# EAGLE library part PUSBM12VX4-TL-115 (library custom-ds)
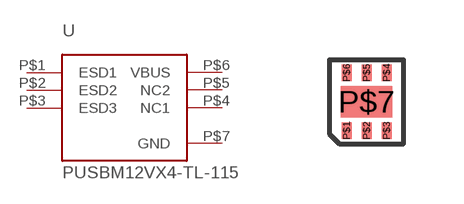
[diagram p6: symbol with the pads of PUSBM12VX4-TL-115; footprint PUSBM12VX4-TL-115]

Designator prefix U

## PUSBM12VX4-TL-115  [PUSBM12VX4-TL-115]
P$1  ESD1
P$2  ESD2
P$3  ESD3
P$4  NC1  nc
P$5  NC2  nc
P$6  VBUS  pwr
P$7  GND  pwr

## Footprint PUSBM12VX4-TL-115 (pad centres in mm)
NXP USB ESD Protection Array PUSBM12VX4-TL 115 ESD protection array for USB ports.
smd 0.25 x 0.4: P$1 -0.5,-0.725; P$2 0,-0.725; P$3 0.5,-0.725; P$4 0.5,0.725; P$5 0,0.725; P$6 -0.5,0.725
smd 1.3 x 0.8: P$7 0,0